# Altium schematic symbol library Schlib1.SchLib: 1 symbol
Pins are listed as number, name and electrical type; pins without a type are passive.

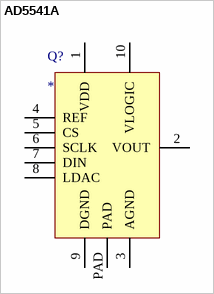
[diagram p0: symbol AD5541A]

## AD5541A
designator Q?
2.7 V to 5.5 V, Serial-Input, / Voltage Output, Unbuffered 16-Bit DAC
pins: 1 VDD, 2 VOUT, 3 AGND, 4 REF, 5 CS, 6 SCLK, 7 DIN, 8 LDAC, 9 DGND, 10 VLOGIC, PAD